# Altium schematic symbol library A.Shelestov_Inductors.SchLib: 4 symbols
Pins are listed as number, name and electrical type; pins without a type are passive.

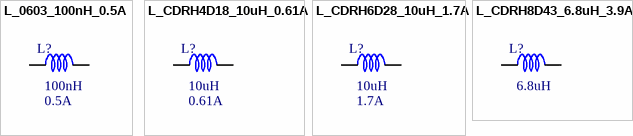
[diagram p0: symbols L_0603_100nH_0.5A to L_CDRH8D43_6.8uH_3.9A]

## L_0603_100nH_0.5A
designator L?  Current: 0.5A  Inductivity: 100nH  (hidden comment: *)
Inductor Generic; Value: *; Size: 0603; Url: *; PriceKosmodromUAH: *; Kosmodrom: *
footprint L0603
pins: 1, 2

## L_CDRH4D18_10uH_0.61A
designator L?  Current: 0.61A  Inductivity: 10uH  (hidden comment: *)
Inductor Generic; Value: *; Size: CDRH4D18; Url: http://www.kosmodrom.com.ua/el.php?name=CDRH4D18NP-100NC; PriceKosmodromUAH: 7; Kosmodrom: http://www.kosmodrom.com.ua/el.php?name=CDRH4D18NP-100NC
footprint L_CDRH4D18
pins: 1, 2

## L_CDRH6D28_10uH_1.7A
designator L?  Current: 1.7A  Inductivity: 10uH  (hidden comment: *)
Inductor Generic; Value: *; Size: CDHR6D28; Url: http://www.kosmodrom.com.ua/el.php?name=CDRH6D28NP-100NC; PriceKosmodromUAH: 6,25; Kosmodrom: http://www.kosmodrom.com.ua/el.php?name=CDRH6D28NP-100NC
footprint L_CDRH6D28
pins: 1, 2

## L_CDRH8D43_6.8uH_3.9A
designator L?  Inductivity: 6.8uH  (hidden comment: *)
Inductor Generic; Current: 3.9A; Value: *; Size: CHDR8D43; Url: http://www.kosmodrom.com.ua/el.php?name=CDRH8D43NP-6R8NC; PriceKosmodromUAH: 12; Kosmodrom: http://www.kosmodrom.com.ua/el.php?name=CDRH8D43NP-6R8NC
footprint L_CDRH8D43
pins: 1, 2